# Altium schematic symbol library Bourns-3214-Series.SchLib: 1 symbol
Pins are listed as number, name and electrical type; pins without a type are passive.

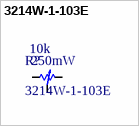
[diagram p0: symbol 3214W-1-103E]

## 3214W-1-103E
designator R?  value 10k  Value2: 250mW
10 kOhms 0.25W, 1/4W J Lead Surface Mount Trimmer Potentiometer Cermet 5.0 Turn Top Adjustment; Type: 3214W-1-103E
footprint BOURNS_3214W_C
pins: 1, 2, 3